# EAGLE library part LTC6820 (library collin)
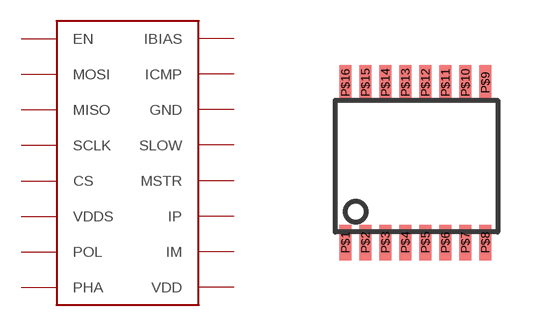
[diagram p9: symbol with the pads of MSOP16; footprint MSOP16]

Designator prefix -

## LTC6820  [MSOP16]
P$1  EN
P$2  MOSI
P$3  MISO
P$4  SCLK
P$5  CS
P$6  VDDS
P$7  POL
P$8  PHA
P$9  VDD
P$10  IM
P$11  IP
P$12  MSTR
P$13  SLOW
P$14  GND
P$15  ICMP
P$16  IBIAS

## Footprint MSOP16 (pad centres in mm)
smd 0.305 x 0.889: P$1 0,0.5; P$2 0.5,0.5; P$3 1.001,0.5; P$4 1.501,0.5; P$5 2.002,0.5; P$6 2.502,0.5; P$7 3.002,0.5; P$8 3.503,0.5; P$9 3.503,4.503; P$10 3.002,4.503; P$11 2.502,4.503; P$12 2.002,4.503; P$13 1.501,4.503; P$14 1.001,4.503; P$15 0.5,4.503; P$16 0,4.503